# Altium schematic symbol library Electromechanical.SchLib: 1 symbol
Pins are listed as number, name and electrical type; pins without a type are passive.

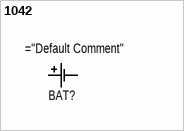
[diagram p0: symbol 1042]

## 1042
designator BAT?
BATT HOLDER 18650 1 CELL SMD; Manufacturer: Keystone Electronics; Part Number: 1042; Default Comment: 18650; Power Dissipation: * W; Rated Voltage: * V; Rated Current: * A; Tolerance: * %; Value: 18650; Other: Battery Holder (Open) 18650 1 Cell SMD (SMT) Tab; Case: 18650; Operating Temperature: -45 °C to +145 °C; Type: Electromechanical; HelpURL: https://www.digikey.com/en/products/detail/keystone-electronics/1042/2745668; Rated Power: * W; Summary: ="Type"+" "+"Part Number"+" "+"Manufacturer"+" "+"Value"+" "+"Tolerance"+" "+"Operating Temperature"+" "+"Case"+" "+"Power Dissipation"+" "+"Rated Current"+" "+"Rated Power"+" "+"Rated Voltage"+" "+"Other"; Assembly: *
footprint 18650 (18650 single cell batery holder.)
pins: NEG, POS